# EAGLE library part LPC213X (library atmega328pb_tqfn)
Schematic element and footprint for NXP LPC213x uC. Spark Fun Electronics SKU : COM-00520
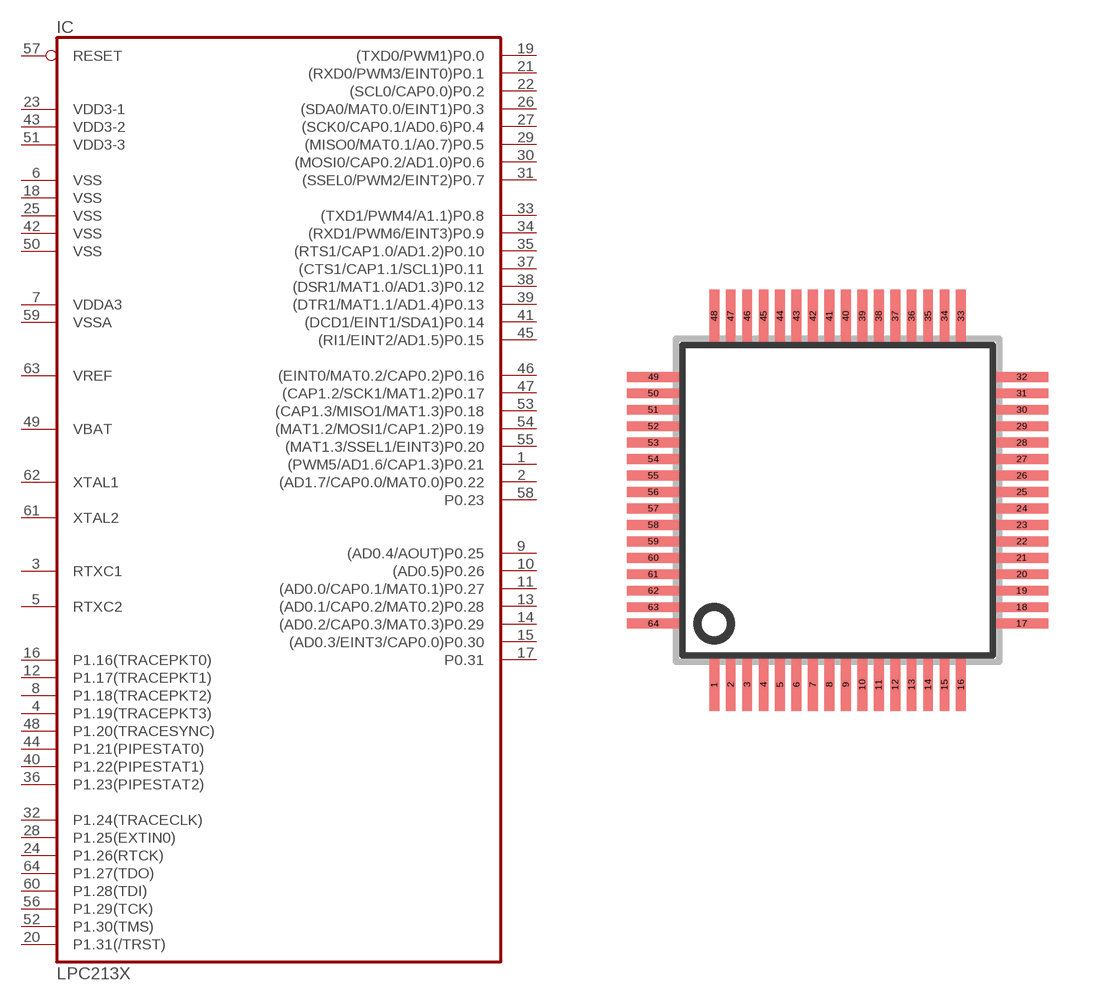
[diagram p31: symbol with the pads of SQFP-S-10X10-64; footprint SQFP-S-10X10-64]

Designator prefix IC

## LPC213X  [SQFP-S-10X10-64]
1  (PWM5/AD1.6/CAP1.3)P0.21
2  (AD1.7/CAP0.0/MAT0.0)P0.22
3  RTXC1  in
4  P1.19(TRACEPKT3)
5  RTXC2  out
6  VSS  pwr
7  VDDA3  pwr
8  P1.18(TRACEPKT2)
9  (AD0.4/AOUT)P0.25
10  (AD0.5)P0.26
11  (AD0.0/CAP0.1/MAT0.1)P0.27
12  P1.17(TRACEPKT1)
13  (AD0.1/CAP0.2/MAT0.2)P0.28
14  (AD0.2/CAP0.3/MAT0.3)P0.29
15  (AD0.3/EINT3/CAP0.0)P0.30
16  P1.16(TRACEPKT0)
17  P0.31  out
18  VSS  pwr
19  (TXD0/PWM1)P0.0
20  P1.31(/TRST)
21  (RXD0/PWM3/EINT0)P0.1
22  (SCL0/CAP0.0)P0.2
23  VDD3-1  pwr
24  P1.26(RTCK)
25  VSS  pwr
26  (SDA0/MAT0.0/EINT1)P0.3
27  (SCK0/CAP0.1/AD0.6)P0.4
28  P1.25(EXTIN0)
29  (MISO0/MAT0.1/A0.7)P0.5
30  (MOSI0/CAP0.2/AD1.0)P0.6
31  (SSEL0/PWM2/EINT2)P0.7
32  P1.24(TRACECLK)
33  (TXD1/PWM4/A1.1)P0.8
34  (RXD1/PWM6/EINT3)P0.9
35  (RTS1/CAP1.0/AD1.2)P0.10
36  P1.23(PIPESTAT2)
37  (CTS1/CAP1.1/SCL1)P0.11
38  (DSR1/MAT1.0/AD1.3)P0.12
39  (DTR1/MAT1.1/AD1.4)P0.13
40  P1.22(PIPESTAT1)
41  (DCD1/EINT1/SDA1)P0.14
42  VSS  pwr
43  VDD3-2  pwr
44  P1.21(PIPESTAT0)
45  (RI1/EINT2/AD1.5)P0.15
46  (EINT0/MAT0.2/CAP0.2)P0.16
47  (CAP1.2/SCK1/MAT1.2)P0.17
48  P1.20(TRACESYNC)
49  VBAT  pwr
50  VSS  pwr
51  VDD3-3  pwr
52  P1.30(TMS)
53  (CAP1.3/MISO1/MAT1.3)P0.18
54  (MAT1.2/MOSI1/CAP1.2)P0.19
55  (MAT1.3/SSEL1/EINT3)P0.20
56  P1.29(TCK)
57  RESET  in
58  P0.23
59  VSSA  pwr
60  P1.28(TDI)
61  XTAL2  out
62  XTAL1  in
63  VREF  in
64  P1.27(TDO)

## Footprint SQFP-S-10X10-64 (pad centres in mm)
QFP64 shrink quad flat pack, square
smd 0.3 x 1.6: 1 -3.75,-5.6; 2 -3.25,-5.6; 3 -2.75,-5.6; 4 -2.25,-5.6; 5 -1.75,-5.6; 6 -1.25,-5.6; 7 -0.75,-5.6; 8 -0.25,-5.6; 9 0.25,-5.6; 10 0.75,-5.6; 11 1.25,-5.6; 12 1.75,-5.6; 13 2.25,-5.6; 14 2.75,-5.6; 15 3.25,-5.6; 16 3.75,-5.6; 33 3.75,5.6; 34 3.25,5.6; 35 2.75,5.6; 36 2.25,5.6; 37 1.75,5.6; 38 1.25,5.6; 39 0.75,5.6; 40 0.25,5.6; 41 -0.25,5.6; 42 -0.75,5.6; 43 -1.25,5.6; 44 -1.75,5.6; 45 -2.25,5.6; 46 -2.75,5.6; 47 -3.25,5.6; 48 -3.75,5.6
smd 1.6 x 0.3: 17 5.6,-3.75; 18 5.6,-3.25; 19 5.6,-2.75; 20 5.6,-2.25; 21 5.6,-1.75; 22 5.6,-1.25; 23 5.6,-0.75; 24 5.6,-0.25; 25 5.6,0.25; 26 5.6,0.75; 27 5.6,1.25; 28 5.6,1.75; 29 5.6,2.25; 30 5.6,2.75; 31 5.6,3.25; 32 5.6,3.75; 49 -5.6,3.75; 50 -5.6,3.25; 51 -5.6,2.75; 52 -5.6,2.25; 53 -5.6,1.75; 54 -5.6,1.25; 55 -5.6,0.75; 56 -5.6,0.25; 57 -5.6,-0.25; 58 -5.6,-0.75; 59 -5.6,-1.25; 60 -5.6,-1.75; 61 -5.6,-2.25; 62 -5.6,-2.75; 63 -5.6,-3.25; 64 -5.6,-3.75